# EAGLE library part SAMTEC_PI_REVERSE (library FPC)
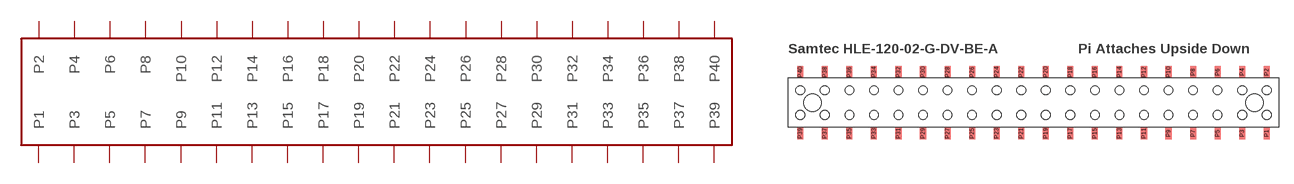
[diagram p2: symbol with the pads of HLE-120-02-G-DV-BE-A--REVERSEMOUNT; footprint HLE-120-02-G-DV-BE-A--REVERSEMOUNT]

Designator prefix -

## SAMTEC_PI_REVERSE  [HLE-120-02-G-DV-BE-A--REVERSEMOUNT]
P1  P1
P2  P2
P3  P3
P4  P4
P5  P5
P6  P6
P7  P7
P8  P8
P9  P9
P10  P10
P11  P11
P12  P12
P13  P13
P14  P14
P15  P15
P16  P16
P17  P17
P18  P18
P19  P19
P20  P20
P21  P21
P22  P22
P23  P23
P24  P24
P25  P25
P26  P26
P27  P27
P28  P28
P29  P29
P30  P30
P31  P31
P32  P32
P33  P33
P34  P34
P35  P35
P36  P36
P37  P37
P38  P38
P39  P39
P40  P40

## Footprint HLE-120-02-G-DV-BE-A--REVERSEMOUNT (pad centres in mm)
smd 0.635 x 1.27: P1 24.13,-3.175; P2 24.13,3.175; P3 21.59,-3.175; P4 21.59,3.175; P5 19.05,-3.175; P6 19.05,3.175; P7 16.51,-3.175; P8 16.51,3.175; P9 13.97,-3.175; P10 13.97,3.175; P11 11.43,-3.175; P12 11.43,3.175; P13 8.89,-3.175; P14 8.89,3.175; P15 6.35,-3.175; P16 6.35,3.175; P17 3.81,-3.175; P18 3.81,3.175; P19 1.27,-3.175; P20 1.27,3.175; P21 -1.27,-3.175; P22 -1.27,3.175; P23 -3.81,-3.175; P24 -3.81,3.175; P25 -6.35,-3.175; P26 -6.35,3.175; P27 -8.89,-3.175; P28 -8.89,3.175; P29 -11.43,-3.175; P30 -11.43,3.175; P31 -13.97,-3.175; P32 -13.97,3.175; P33 -16.51,-3.175; P34 -16.51,3.175; P35 -19.05,-3.175; P36 -19.05,3.175; P37 -21.59,-3.175; P38 -21.59,3.175; P39 -24.13,-3.175; P40 -24.13,3.175
hole 0.9 at 1.27,1.27
hole 0.9 at 3.81,1.27
hole 0.9 at 6.35,1.27
hole 0.9 at 8.89,1.27
hole 0.9 at 11.43,1.27
hole 0.9 at 13.97,1.27
hole 0.9 at 16.51,1.27
hole 0.9 at 19.05,1.27
hole 0.9 at 21.59,1.27
hole 0.9 at 24.13,1.27
hole 0.9 at 24.13,-1.27
hole 0.9 at 21.59,-1.27
hole 0.9 at 19.05,-1.27
hole 0.9 at 16.51,-1.27
hole 0.9 at 13.97,-1.27
hole 0.9 at 11.43,-1.27
hole 0.9 at 8.89,-1.27
hole 0.9 at 6.35,-1.27
hole 0.9 at 3.81,-1.27
hole 0.9 at 1.27,-1.27
hole 0.9 at -1.27,-1.27
hole 0.9 at -3.81,-1.27
hole 0.9 at -6.35,-1.27
hole 0.9 at -8.89,-1.27
hole 0.9 at -11.43,-1.27
hole 0.9 at -13.97,-1.27
hole 0.9 at -16.51,-1.27
hole 0.9 at -19.05,-1.27
hole 0.9 at -21.59,-1.27
hole 0.9 at -24.13,-1.27
hole 0.9 at -24.13,1.27
hole 0.9 at -21.59,1.27
hole 0.9 at -19.05,1.27
hole 0.9 at -16.51,1.27
hole 0.9 at -13.97,1.27
hole 0.9 at -11.43,1.27
hole 0.9 at -8.89,1.27
hole 0.9 at -6.35,1.27
hole 0.9 at -3.81,1.27
hole 0.9 at -1.27,1.27
hole 1.778 at -22.86,0
hole 1.778 at 22.86,0